# Altium footprint library stm32f767zit_micro.PcbLib: 1 footprints
Each footprint in its own frame and in the unit in brackets; x right, y up, seen from the top. Pads: shape width x height; smd on the part's side, far side on the other; paste and mask are expansions set on the pad; w line width, h text height; cw(c..) or ccw(c..) is an arc to the next point about the centre after c.
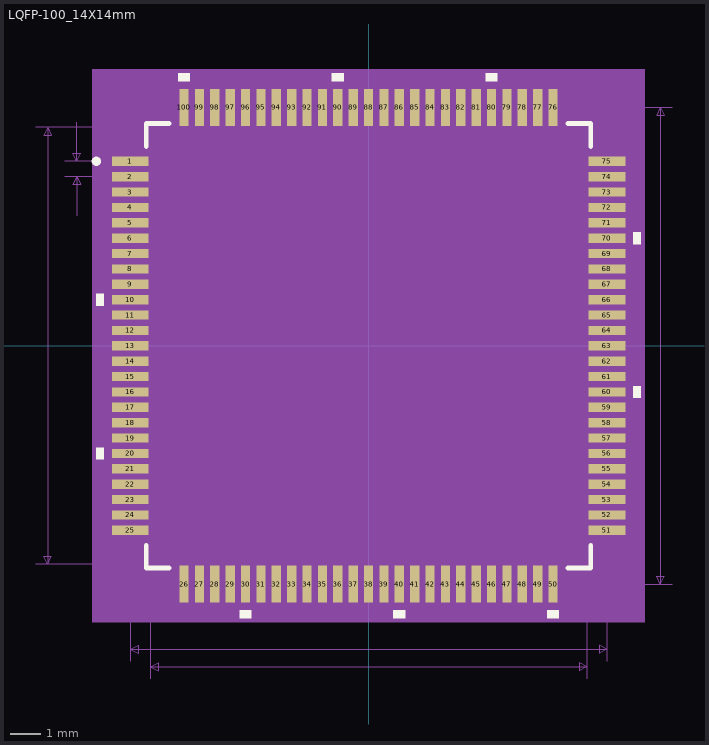
[diagram p0: the footprint, top view; thin cyan lines are the x and y axes]

## LQFP-100_14X14mm [mm]
pads (100):
  rect 1.2x0.3 smd paste+0 mask+0: 1(-7.75,6) 2(-7.75,5.5) 3(-7.75,5) 4(-7.75,4.5) 5(-7.75,4) 6(-7.75,3.5) 7(-7.75,3) 8(-7.75,2.5) 9(-7.75,2) 10(-7.75,1.5) 11(-7.75,1) 12(-7.75,0.5) 13(-7.75,0) 14(-7.75,-0.5) 15(-7.75,-1) 16(-7.75,-1.5) 17(-7.75,-2) 18(-7.75,-2.5) 19(-7.75,-3) 20(-7.75,-3.5) 21(-7.75,-4) 22(-7.75,-4.5) 23(-7.75,-5) 24(-7.75,-5.5) 25(-7.75,-6) 51(7.75,-6) 52(7.75,-5.5) 53(7.75,-5) 54(7.75,-4.5) 55(7.75,-4) 56(7.75,-3.5) 57(7.75,-3) 58(7.75,-2.5) 59(7.75,-2) 60(7.75,-1.5) 61(7.75,-1) 62(7.75,-0.5) 63(7.75,0) 64(7.75,0.5) 65(7.75,1) 66(7.75,1.5) 67(7.75,2) 68(7.75,2.5) 69(7.75,3) 70(7.75,3.5) 71(7.75,4) 72(7.75,4.5) 73(7.75,5) 74(7.75,5.5) 75(7.75,6)
  rect 0.3x1.2 smd paste+0 mask+0: 26(-6,-7.75) 27(-5.5,-7.75) 28(-5,-7.75) 29(-4.5,-7.75) 30(-4,-7.75) 31(-3.5,-7.75) 32(-3,-7.75) 33(-2.5,-7.75) 34(-2,-7.75) 35(-1.5,-7.75) 36(-1,-7.75) 37(-0.5,-7.75) 38(0,-7.75) 39(0.5,-7.75) 40(1,-7.75) 41(1.5,-7.75) 42(2,-7.75) 43(2.5,-7.75) 44(3,-7.75) 45(3.5,-7.75) 46(4,-7.75) 47(4.5,-7.75) 48(5,-7.75) 49(5.5,-7.75) 50(6,-7.75) 76(6,7.75) 77(5.5,7.75) 78(5,7.75) 79(4.5,7.75) 80(4,7.75) 81(3.5,7.75) 82(3,7.75) 83(2.5,7.75) 84(2,7.75) 85(1.5,7.75) 86(1,7.75) 87(0.5,7.75) 88(0,7.75) 89(-0.5,7.75) 90(-1,7.75) 91(-1.5,7.75) 92(-2,7.75) 93(-2.5,7.75) 94(-3,7.75) 95(-3.5,7.75) 96(-4,7.75) 97(-4.5,7.75) 98(-5,7.75) 99(-5.5,7.75) 100(-6,7.75)
Top Overlay:
  circle w0.152: c-8.854,6 r0.076
  region: -8.604,1.69 -8.858,1.69 -8.858,1.309 -8.604,1.309
  region: -8.604,-3.31 -8.858,-3.31 -8.858,-3.691 -8.604,-3.691
  region: -3.809,-8.604 -4.19,-8.604 -4.19,-8.858 -3.809,-8.858
  region: 1.191,-8.604 0.81,-8.604 0.81,-8.858 1.191,-8.858
  region: 6.191,-8.604 5.81,-8.604 5.81,-8.858 6.191,-8.858
  region: 8.604,-1.309 8.858,-1.309 8.858,-1.69 8.604,-1.69
  region: 8.604,3.691 8.858,3.691 8.858,3.31 8.604,3.31
  region: 4.19,8.604 3.809,8.604 3.809,8.858 4.19,8.858
  region: -0.81,8.604 -1.191,8.604 -1.191,8.858 -0.81,8.858
  region: -5.81,8.604 -6.191,8.604 -6.191,8.858 -5.81,8.858
  lines w0.152: -7.227,-6.483 -7.227,-7.227 -6.483,-7.227 ; -7.227,6.483 -7.227,7.227 -6.483,7.227 ; 6.483,-7.227 7.227,-7.227 7.227,-6.483 ; 6.483,7.227 7.227,7.227 7.227,6.483
Mechanical 5:
  region: 8.985,-8.985 -8.985,-8.985 -8.985,8.985 8.985,8.985
Mechanical 7:
  lines w0.025: -10.821,-7.1 -6,-7.1 ; -10.821,7.1 -6,7.1 ; -9.874,5.5 -7.75,5.5 ; -9.874,6 -7.75,6 ; -9.493,4.23 -9.493,5.5 ; -9.493,7.27 -9.493,6 ; -7.75,-10.255 -7.75,-5.7 ; -7.1,-10.821 -7.1,-6 ; 6.3,-7.75 9.874,-7.75 ; 6.3,7.75 9.874,7.75 ; 7.1,-10.821 7.1,-6 ; 7.75,-10.255 7.75,-5.7 ; -10.44,-7.1 -10.44,7.1 ; -10.44,-7.1 -10.567,-6.846 -10.313,-6.846 -10.44,-7.1 ; -10.44,7.1 -10.567,6.846 -10.313,6.846 -10.44,7.1 ; -9.493,5.5 -9.62,5.246 -9.366,5.246 -9.493,5.5 ; -9.493,6 -9.62,6.254 -9.366,6.254 -9.493,6 ; -7.75,-9.874 7.75,-9.874 ; -7.75,-9.874 -7.496,-9.747 -7.496,-10.001 -7.75,-9.874 ; -7.1,-10.44 7.1,-10.44 ; -7.1,-10.44 -6.846,-10.313 -6.846,-10.567 -7.1,-10.44 ; 7.1,-10.44 6.846,-10.313 6.846,-10.567 7.1,-10.44 ; 7.75,-9.874 7.496,-9.747 7.496,-10.001 7.75,-9.874 ; 9.493,-7.75 9.493,7.75 ; 9.493,-7.75 9.366,-7.496 9.62,-7.496 9.493,-7.75 ; 9.493,7.75 9.366,7.496 9.62,7.496 9.493,7.75
  text "Default Padstyle: RX47p24Y11p81D0T" at -10.795,-14.954 h1.27
  text "Alt 1 Padstyle: OX60Y90D30P" at -8.572,-19.526 h1.27
  text "Alt 2 Padstyle: OX90Y60D30P" at -8.572,-21.05 h1.27
  text "0.02in/0.5mm" at -13.811,5.433 h0.64
  text "0.61in/15.5mm" at 10.001,-0.318 h0.64
  text "0.61in/15.5mm" at -2.064,-11.017 h0.64
  text "0.559in/14.2mm" at -2.222,-11.583 h0.64
  text "0.559in/14.2mm" at -15.393,-0.318 h0.64
Mechanical 13:
  circle w0: c-6.515,6 r0.076
  lines w0.025: -7.1,5.83 -5.83,7.1 ; -7.1,-7.1 7.1,-7.1 7.1,7.1 -7.1,7.1 -7.1,-7.1
Mechanical 15:
  region: -6.508,-7.354 -7.354,-7.354 -7.354,-6.508 -8.858,-6.508 -8.858,6.508 -7.354,6.508 -7.354,7.354 -6.508,7.354 -6.508,8.858 6.508,8.858 6.508,7.354 7.354,7.354 7.354,6.508 8.858,6.508 8.858,-6.508 7.354,-6.508 7.354,-7.354 6.508,-7.354 6.508,-8.858 -6.508,-8.858
  lines w0.152: -8.858,-6.508 -7.354,-6.508 -7.354,-7.354 -6.508,-7.354 -6.508,-8.858 6.508,-8.858 6.508,-7.354 7.354,-7.354 7.354,-6.508 8.858,-6.508 8.858,6.508 7.354,6.508 7.354,7.354 6.508,7.354 6.508,8.858 -6.508,8.858 -6.508,7.354 -7.354,7.354 -7.354,6.508 -8.858,6.508 -8.858,-6.508
3D body: height 0.25, standoff 0, extent 0,0 0.254,0.254